# Altium integrated library 77311-402-07LF.IntLib: 1 symbol
Pins are listed as number, name and electrical type; pins without a type are passive.

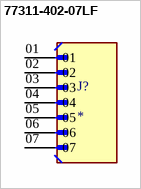
[diagram p0: symbol 77311-402-07LF]

## 77311-402-07LF
designator J?
MF: Amphenol ICC (FCI); MP: 77311-402-07LF; Package: None; Price: None; Value: *; Availability: Unavailable
footprint AMPHENOL_77311-402-07LF
pins: 01, 02, 03, 04, 05, 06, 07